# EAGLE library part BM24-24DP_2-0.35V_53_ (library hirose)
Board to Board & Mezzanine Connectors 24P HDR B2FPC 0.8mm H .35mm P Source: Datasheet <https://www.hirose.com/product/download/?distributor=digikey&type=2d&lang=en&num=BM24-24DP/2-0.35V(53)>
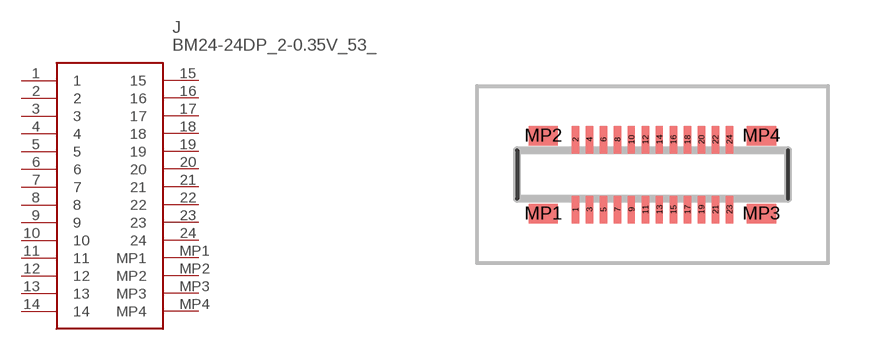
[diagram p0: symbol with the pads of BM2424DP2035V53; footprint BM2424DP2035V53]

Designator prefix J

## BM24-24DP_2-0.35V_53_ (Description: Board to Board & Mezzanine Connectors 24P HDR B2FPC 0.8mm H .35mm P; Height: 0.76mm; Manufacturer_Name: Hirose; Manufacturer_Part_Number: BM24-24DP/2-0.35V(53); Mouser_Part_Number: 798-BM2424DP20.35V53; Mouser_Price-Stock: https://www.mouser.co.uk/ProductDetail/Hirose-Connector/BM24-24DP-2-0.35V53?qs=c8NFF48pVsC3lB14jFntAg%3D%3D)  [BM2424DP2035V53]
1  1
2  2
3  3
4  4
5  5
6  6
7  7
8  8
9  9
10  10
11  11
12  12
13  13
14  14
15  15
16  16
17  17
18  18
19  19
20  20
21  21
22  22
23  23
24  24
MP1  MP1
MP2  MP2
MP3  MP3
MP4  MP4

## Footprint BM2424DP2035V53 (pad centres in mm)
BM24-24DP/2-0.35V(53)-2
smd 0.18 x 0.69: 1 -1.925,-0.875; 2 -1.925,0.875; 3 -1.575,-0.875; 4 -1.575,0.875; 5 -1.225,-0.875; 6 -1.225,0.875; 7 -0.875,-0.875; 8 -0.875,0.875; 9 -0.525,-0.875; 10 -0.525,0.875; 11 -0.175,-0.875; 12 -0.175,0.875; 13 0.175,-0.875; 14 0.175,0.875; 15 0.525,-0.875; 16 0.525,0.875; 17 0.875,-0.875; 18 0.875,0.875; 19 1.225,-0.875; 20 1.225,0.875; 21 1.575,-0.875; 22 1.575,0.875; 23 1.925,-0.875; 24 1.925,0.875
smd 0.73 x 0.49: MP1 -2.725,-0.975; MP2 -2.725,0.975; MP3 2.725,-0.975; MP4 2.725,0.975